# Altium footprint library QFP_Shrink_Rect_50P_Side_L.PcbLib: 15 footprints
Each footprint in its own frame and in the unit in brackets; x right, y up, seen from the top. Pads: shape width x height; smd on the part's side, far side on the other; paste and mask are expansions set on the pad; w line width, h text height; cw(c..) or ccw(c..) is an arc to the next point about the centre after c.
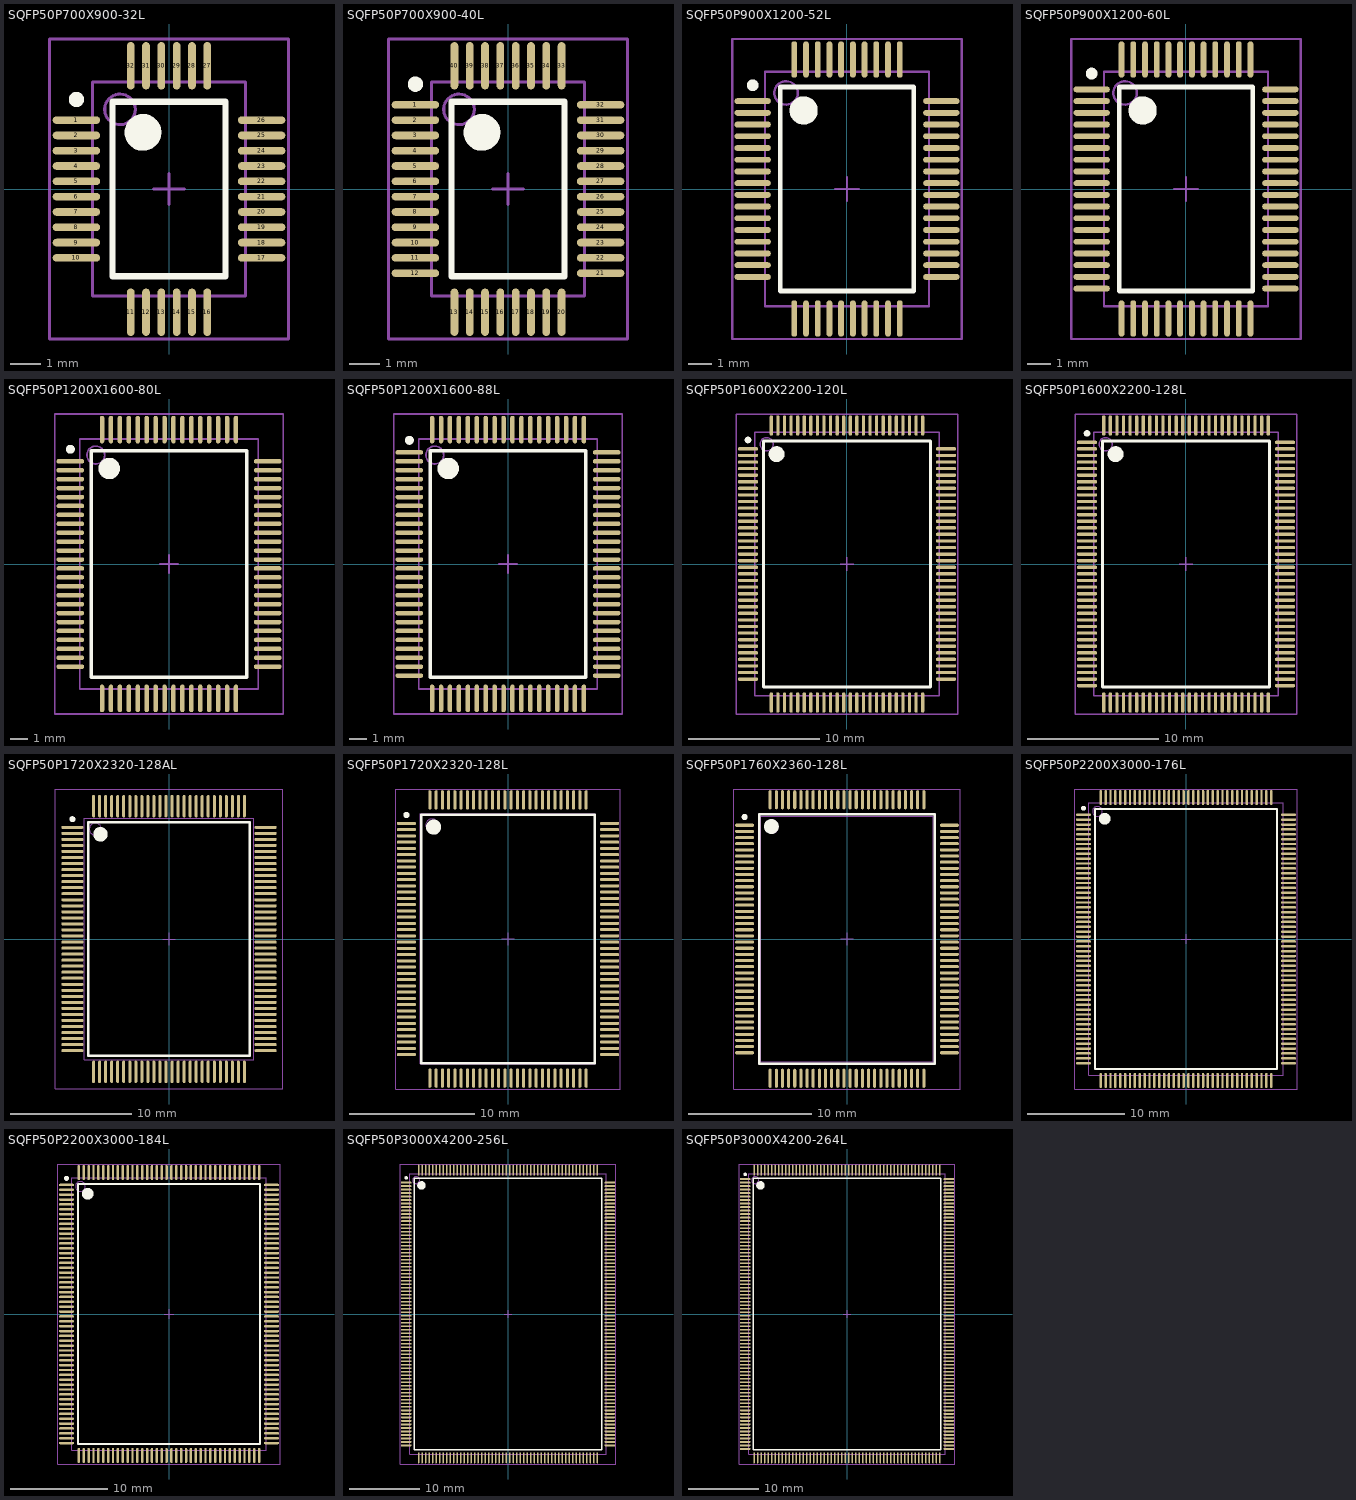
[diagram p0: the footprints below, top view; thin cyan lines are the x and y axes]

## SQFP50P700X900-32L [mm] "Shrink QFP, 32-Leads, Body 7x5 mm, Pitch 0.5mm, IPC High Density"
height 1.7
pads (32):
  oval 1.55x0.25 smd: 1(-3.025,2.25) 2(-3.025,1.75) 3(-3.025,1.25) 4(-3.025,0.75) 5(-3.025,0.25) 6(-3.025,-0.25) 7(-3.025,-0.75) 8(-3.025,-1.25) 9(-3.025,-1.75) 10(-3.025,-2.25) 17(3.025,-2.25) 18(3.025,-1.75) 19(3.025,-1.25) 20(3.025,-0.75) 21(3.025,-0.25) 22(3.025,0.25) 23(3.025,0.75) 24(3.025,1.25) 25(3.025,1.75) 26(3.025,2.25)
  oval 0.25x1.55 smd: 11(-1.25,-4.025) 12(-0.75,-4.025) 13(-0.25,-4.025) 14(0.25,-4.025) 15(0.75,-4.025) 16(1.25,-4.025) 27(1.25,4.025) 28(0.75,4.025) 29(0.25,4.025) 30(-0.25,4.025) 31(-0.75,4.025) 32(-1.25,4.025)
Top Overlay:
  circle w0.25: c-3.025,2.925 r0.125
  circle w0.6: c-0.85,1.85 r0.3
  lines w0.2: -1.85,-2.85 -1.85,2.85 1.85,2.85 1.85,-2.85 -1.85,-2.85
Mechanical 13:
  circle w0.1: c-1.6,2.6 r0.5
  lines w0.1: -2.5,-3.5 -2.5,3.5 2.5,3.5 2.5,-3.5 -2.5,-3.5
Mechanical 15:
  lines w0.1: -0.5,0 0.5,0 ; 0,-0.5 0,0.5 ; -3.9,-4.9 -3.9,4.9 3.9,4.9 3.9,-4.9 -3.9,-4.9
3D body: height 1.7, standoff 0, extent -2.5,-3.5 2.5,3.5

## SQFP50P700X900-40L [mm] "Shrink QFP, 40-Leads, Body 7x5 mm, Pitch 0.5mm, IPC High Density"
height 1.7
pads (40):
  oval 1.55x0.25 smd: 1(-3.025,2.75) 2(-3.025,2.25) 3(-3.025,1.75) 4(-3.025,1.25) 5(-3.025,0.75) 6(-3.025,0.25) 7(-3.025,-0.25) 8(-3.025,-0.75) 9(-3.025,-1.25) 10(-3.025,-1.75) 11(-3.025,-2.25) 12(-3.025,-2.75) 21(3.025,-2.75) 22(3.025,-2.25) 23(3.025,-1.75) 24(3.025,-1.25) 25(3.025,-0.75) 26(3.025,-0.25) 27(3.025,0.25) 28(3.025,0.75) 29(3.025,1.25) 30(3.025,1.75) 31(3.025,2.25) 32(3.025,2.75)
  oval 0.25x1.55 smd: 13(-1.75,-4.025) 14(-1.25,-4.025) 15(-0.75,-4.025) 16(-0.25,-4.025) 17(0.25,-4.025) 18(0.75,-4.025) 19(1.25,-4.025) 20(1.75,-4.025) 33(1.75,4.025) 34(1.25,4.025) 35(0.75,4.025) 36(0.25,4.025) 37(-0.25,4.025) 38(-0.75,4.025) 39(-1.25,4.025) 40(-1.75,4.025)
Top Overlay:
  circle w0.6: c-0.85,1.85 r0.3
  circle w0.25: c-3.025,3.425 r0.125
  lines w0.2: -1.85,-2.85 1.85,-2.85 1.85,2.85 -1.85,2.85 -1.85,-2.85
Mechanical 13:
  circle w0.1: c-1.6,2.6 r0.5
  lines w0.1: -2.5,-3.5 2.5,-3.5 2.5,3.5 -2.5,3.5 -2.5,-3.5
Mechanical 15:
  lines w0.1: -0.5,0 0.5,0 ; 0,-0.5 0,0.5 ; -3.9,-4.9 3.9,-4.9 3.9,4.9 -3.9,4.9 -3.9,-4.9
3D body: height 1.7, standoff 0, extent -2.5,-3.5 2.5,3.5

## SQFP50P900X1200-52L [mm] "Shrink QFP, 52-Leads, Body 10x7 mm, Pitch 0.5mm, IPC High Density"
height 2.2
pads (52):
  oval 1.55x0.25 smd: 1(-4.025,3.75) 2(-4.025,3.25) 3(-4.025,2.75) 4(-4.025,2.25) 5(-4.025,1.75) 6(-4.025,1.25) 7(-4.025,0.75) 8(-4.025,0.25) 9(-4.025,-0.25) 10(-4.025,-0.75) 11(-4.025,-1.25) 12(-4.025,-1.75) 13(-4.025,-2.25) 14(-4.025,-2.75) 15(-4.025,-3.25) 16(-4.025,-3.75) 27(4.025,-3.75) 28(4.025,-3.25) 29(4.025,-2.75) 30(4.025,-2.25) 31(4.025,-1.75) 32(4.025,-1.25) 33(4.025,-0.75) 34(4.025,-0.25) 35(4.025,0.25) 36(4.025,0.75) 37(4.025,1.25) 38(4.025,1.75) 39(4.025,2.25) 40(4.025,2.75) 41(4.025,3.25) 42(4.025,3.75)
  oval 0.25x1.55 smd: 17(-2.25,-5.525) 18(-1.75,-5.525) 19(-1.25,-5.525) 20(-0.75,-5.525) 21(-0.25,-5.525) 22(0.25,-5.525) 23(0.75,-5.525) 24(1.25,-5.525) 25(1.75,-5.525) 26(2.25,-5.525) 43(2.25,5.525) 44(1.75,5.525) 45(1.25,5.525) 46(0.75,5.525) 47(0.25,5.525) 48(-0.25,5.525) 49(-0.75,5.525) 50(-1.25,5.525) 51(-1.75,5.525) 52(-2.25,5.525)
Top Overlay:
  circle w0.6: c-1.85,3.35 r0.3
  circle w0.25: c-4.025,4.425 r0.125
  lines w0.2: -2.85,-4.35 2.85,-4.35 2.85,4.35 -2.85,4.35 -2.85,-4.35
Mechanical 13:
  circle w0.1: c-2.6,4.1 r0.5
  lines w0.1: -3.5,-5 3.5,-5 3.5,5 -3.5,5 -3.5,-5
Mechanical 15:
  lines w0.1: -0.5,0 0.5,0 ; 0,-0.5 0,0.5 ; -4.9,-6.4 4.9,-6.4 4.9,6.4 -4.9,6.4 -4.9,-6.4
3D body: height 2.2, standoff 0, extent -3.5,-5 3.5,5

## SQFP50P900X1200-60L [mm] "Shrink QFP, 60-Leads, Body 10x7 mm, Pitch 0.5mm, IPC High Density"
height 2.2
pads (60):
  oval 1.55x0.25 smd: 1(-4.025,4.25) 2(-4.025,3.75) 3(-4.025,3.25) 4(-4.025,2.75) 5(-4.025,2.25) 6(-4.025,1.75) 7(-4.025,1.25) 8(-4.025,0.75) 9(-4.025,0.25) 10(-4.025,-0.25) 11(-4.025,-0.75) 12(-4.025,-1.25) 13(-4.025,-1.75) 14(-4.025,-2.25) 15(-4.025,-2.75) 16(-4.025,-3.25) 17(-4.025,-3.75) 18(-4.025,-4.25) 31(4.025,-4.25) 32(4.025,-3.75) 33(4.025,-3.25) 34(4.025,-2.75) 35(4.025,-2.25) 36(4.025,-1.75) 37(4.025,-1.25) 38(4.025,-0.75) 39(4.025,-0.25) 40(4.025,0.25) 41(4.025,0.75) 42(4.025,1.25) 43(4.025,1.75) 44(4.025,2.25) 45(4.025,2.75) 46(4.025,3.25) 47(4.025,3.75) 48(4.025,4.25)
  oval 0.25x1.55 smd: 19(-2.75,-5.525) 20(-2.25,-5.525) 21(-1.75,-5.525) 22(-1.25,-5.525) 23(-0.75,-5.525) 24(-0.25,-5.525) 25(0.25,-5.525) 26(0.75,-5.525) 27(1.25,-5.525) 28(1.75,-5.525) 29(2.25,-5.525) 30(2.75,-5.525) 49(2.75,5.525) 50(2.25,5.525) 51(1.75,5.525) 52(1.25,5.525) 53(0.75,5.525) 54(0.25,5.525) 55(-0.25,5.525) 56(-0.75,5.525) 57(-1.25,5.525) 58(-1.75,5.525) 59(-2.25,5.525) 60(-2.75,5.525)
Top Overlay:
  circle w0.6: c-1.85,3.35 r0.3
  circle w0.25: c-4.025,4.925 r0.125
  lines w0.2: -2.85,-4.35 2.85,-4.35 2.85,4.35 -2.85,4.35 -2.85,-4.35
Mechanical 13:
  circle w0.1: c-2.6,4.1 r0.5
  lines w0.1: -3.5,-5 3.5,-5 3.5,5 -3.5,5 -3.5,-5
Mechanical 15:
  lines w0.1: -0.5,0 0.5,0 ; 0,-0.5 0,0.5 ; -4.9,-6.4 4.9,-6.4 4.9,6.4 -4.9,6.4 -4.9,-6.4
3D body: height 2.2, standoff 0, extent -3.5,-5 3.5,5

## SQFP50P1200X1600-80L [mm] "Shrink QFP, 80-Leads, Body 14x10 mm, Pitch 0.5mm, IPC High Density"
height 2.2
pads (80):
  oval 1.55x0.25 smd: 1(-5.525,5.75) 2(-5.525,5.25) 3(-5.525,4.75) 4(-5.525,4.25) 5(-5.525,3.75) 6(-5.525,3.25) 7(-5.525,2.75) 8(-5.525,2.25) 9(-5.525,1.75) 10(-5.525,1.25) 11(-5.525,0.75) 12(-5.525,0.25) 13(-5.525,-0.25) 14(-5.525,-0.75) 15(-5.525,-1.25) 16(-5.525,-1.75) 17(-5.525,-2.25) 18(-5.525,-2.75) 19(-5.525,-3.25) 20(-5.525,-3.75) 21(-5.525,-4.25) 22(-5.525,-4.75) 23(-5.525,-5.25) 24(-5.525,-5.75) 41(5.525,-5.75) 42(5.525,-5.25) 43(5.525,-4.75) 44(5.525,-4.25) 45(5.525,-3.75) 46(5.525,-3.25) 47(5.525,-2.75) 48(5.525,-2.25) 49(5.525,-1.75) 50(5.525,-1.25) 51(5.525,-0.75) 52(5.525,-0.25) 53(5.525,0.25) 54(5.525,0.75) 55(5.525,1.25) 56(5.525,1.75) 57(5.525,2.25) 58(5.525,2.75) 59(5.525,3.25) 60(5.525,3.75) 61(5.525,4.25) 62(5.525,4.75) 63(5.525,5.25) 64(5.525,5.75)
  oval 0.25x1.55 smd: 25(-3.75,-7.525) 26(-3.25,-7.525) 27(-2.75,-7.525) 28(-2.25,-7.525) 29(-1.75,-7.525) 30(-1.25,-7.525) 31(-0.75,-7.525) 32(-0.25,-7.525) 33(0.25,-7.525) 34(0.75,-7.525) 35(1.25,-7.525) 36(1.75,-7.525) 37(2.25,-7.525) 38(2.75,-7.525) 39(3.25,-7.525) 40(3.75,-7.525) 65(3.75,7.525) 66(3.25,7.525) 67(2.75,7.525) 68(2.25,7.525) 69(1.75,7.525) 70(1.25,7.525) 71(0.75,7.525) 72(0.25,7.525) 73(-0.25,7.525) 74(-0.75,7.525) 75(-1.25,7.525) 76(-1.75,7.525) 77(-2.25,7.525) 78(-2.75,7.525) 79(-3.25,7.525) 80(-3.75,7.525)
Top Overlay:
  circle w0.6: c-3.35,5.35 r0.3
  circle w0.25: c-5.525,6.425 r0.125
  lines w0.2: -4.35,-6.35 4.35,-6.35 4.35,6.35 -4.35,6.35 -4.35,-6.35
Mechanical 13:
  circle w0.1: c-4.1,6.1 r0.5
  lines w0.1: -5,-7 5,-7 5,7 -5,7 -5,-7
Mechanical 15:
  lines w0.1: -0.5,0 0.5,0 ; 0,-0.5 0,0.5 ; -6.4,-8.4 6.4,-8.4 6.4,8.4 -6.4,8.4 -6.4,-8.4
3D body: height 2.2, standoff 0, extent -5,-7 5,7

## SQFP50P1200X1600-88L [mm] "Shrink QFP, 88-Leads, Body 14x10 mm, Pitch 0.5mm, IPC High Density"
height 2.2
pads (88):
  oval 1.55x0.25 smd: 1(-5.525,6.25) 2(-5.525,5.75) 3(-5.525,5.25) 4(-5.525,4.75) 5(-5.525,4.25) 6(-5.525,3.75) 7(-5.525,3.25) 8(-5.525,2.75) 9(-5.525,2.25) 10(-5.525,1.75) 11(-5.525,1.25) 12(-5.525,0.75) 13(-5.525,0.25) 14(-5.525,-0.25) 15(-5.525,-0.75) 16(-5.525,-1.25) 17(-5.525,-1.75) 18(-5.525,-2.25) 19(-5.525,-2.75) 20(-5.525,-3.25) 21(-5.525,-3.75) 22(-5.525,-4.25) 23(-5.525,-4.75) 24(-5.525,-5.25) 25(-5.525,-5.75) 26(-5.525,-6.25) 45(5.525,-6.25) 46(5.525,-5.75) 47(5.525,-5.25) 48(5.525,-4.75) 49(5.525,-4.25) 50(5.525,-3.75) 51(5.525,-3.25) 52(5.525,-2.75) 53(5.525,-2.25) 54(5.525,-1.75) 55(5.525,-1.25) 56(5.525,-0.75) 57(5.525,-0.25) 58(5.525,0.25) 59(5.525,0.75) 60(5.525,1.25) 61(5.525,1.75) 62(5.525,2.25) 63(5.525,2.75) 64(5.525,3.25) 65(5.525,3.75) 66(5.525,4.25) 67(5.525,4.75) 68(5.525,5.25) 69(5.525,5.75) 70(5.525,6.25)
  oval 0.25x1.55 smd: 27(-4.25,-7.525) 28(-3.75,-7.525) 29(-3.25,-7.525) 30(-2.75,-7.525) 31(-2.25,-7.525) 32(-1.75,-7.525) 33(-1.25,-7.525) 34(-0.75,-7.525) 35(-0.25,-7.525) 36(0.25,-7.525) 37(0.75,-7.525) 38(1.25,-7.525) 39(1.75,-7.525) 40(2.25,-7.525) 41(2.75,-7.525) 42(3.25,-7.525) 43(3.75,-7.525) 44(4.25,-7.525) 71(4.25,7.525) 72(3.75,7.525) 73(3.25,7.525) 74(2.75,7.525) 75(2.25,7.525) 76(1.75,7.525) 77(1.25,7.525) 78(0.75,7.525) 79(0.25,7.525) 80(-0.25,7.525) 81(-0.75,7.525) 82(-1.25,7.525) 83(-1.75,7.525) 84(-2.25,7.525) 85(-2.75,7.525) 86(-3.25,7.525) 87(-3.75,7.525) 88(-4.25,7.525)
Top Overlay:
  circle w0.6: c-3.35,5.35 r0.3
  circle w0.25: c-5.525,6.925 r0.125
  lines w0.2: -4.35,-6.35 4.35,-6.35 4.35,6.35 -4.35,6.35 -4.35,-6.35
Mechanical 13:
  circle w0.1: c-4.1,6.1 r0.5
  lines w0.1: -5,-7 5,-7 5,7 -5,7 -5,-7
Mechanical 15:
  lines w0.1: -0.5,0 0.5,0 ; 0,-0.5 0,0.5 ; -6.4,-8.4 6.4,-8.4 6.4,8.4 -6.4,8.4 -6.4,-8.4
3D body: height 2.2, standoff 0, extent -5,-7 5,7

## SQFP50P1600X2200-120L [mm] "Shrink QFP, 120-Leads, Body 20x14 mm, Pitch 0.5mm, IPC High Density"
height 2.2
pads (120):
  oval 1.55x0.25 smd: 1(-7.525,8.75) 2(-7.525,8.25) 3(-7.525,7.75) 4(-7.525,7.25) 5(-7.525,6.75) 6(-7.525,6.25) 7(-7.525,5.75) 8(-7.525,5.25) 9(-7.525,4.75) 10(-7.525,4.25) 11(-7.525,3.75) 12(-7.525,3.25) 13(-7.525,2.75) 14(-7.525,2.25) 15(-7.525,1.75) 16(-7.525,1.25) 17(-7.525,0.75) 18(-7.525,0.25) 19(-7.525,-0.25) 20(-7.525,-0.75) 21(-7.525,-1.25) 22(-7.525,-1.75) 23(-7.525,-2.25) 24(-7.525,-2.75) 25(-7.525,-3.25) 26(-7.525,-3.75) 27(-7.525,-4.25) 28(-7.525,-4.75) 29(-7.525,-5.25) 30(-7.525,-5.75) 31(-7.525,-6.25) 32(-7.525,-6.75) 33(-7.525,-7.25) 34(-7.525,-7.75) 35(-7.525,-8.25) 36(-7.525,-8.75) 61(7.525,-8.75) 62(7.525,-8.25) 63(7.525,-7.75) 64(7.525,-7.25) 65(7.525,-6.75) 66(7.525,-6.25) 67(7.525,-5.75) 68(7.525,-5.25) 69(7.525,-4.75) 70(7.525,-4.25) 71(7.525,-3.75) 72(7.525,-3.25) 73(7.525,-2.75) 74(7.525,-2.25) 75(7.525,-1.75) 76(7.525,-1.25) 77(7.525,-0.75) 78(7.525,-0.25) 79(7.525,0.25) 80(7.525,0.75) 81(7.525,1.25) 82(7.525,1.75) 83(7.525,2.25) 84(7.525,2.75) 85(7.525,3.25) 86(7.525,3.75) 87(7.525,4.25) 88(7.525,4.75) 89(7.525,5.25) 90(7.525,5.75) 91(7.525,6.25) 92(7.525,6.75) 93(7.525,7.25) 94(7.525,7.75) 95(7.525,8.25) 96(7.525,8.75)
  oval 0.25x1.55 smd: 37(-5.75,-10.525) 38(-5.25,-10.525) 39(-4.75,-10.525) 40(-4.25,-10.525) 41(-3.75,-10.525) 42(-3.25,-10.525) 43(-2.75,-10.525) 44(-2.25,-10.525) 45(-1.75,-10.525) 46(-1.25,-10.525) 47(-0.75,-10.525) 48(-0.25,-10.525) 49(0.25,-10.525) 50(0.75,-10.525) 51(1.25,-10.525) 52(1.75,-10.525) 53(2.25,-10.525) 54(2.75,-10.525) 55(3.25,-10.525) 56(3.75,-10.525) 57(4.25,-10.525) 58(4.75,-10.525) 59(5.25,-10.525) 60(5.75,-10.525) 97(5.75,10.525) 98(5.25,10.525) 99(4.75,10.525) 100(4.25,10.525) 101(3.75,10.525) 102(3.25,10.525) 103(2.75,10.525) 104(2.25,10.525) 105(1.75,10.525) 106(1.25,10.525) 107(0.75,10.525) 108(0.25,10.525) 109(-0.25,10.525) 110(-0.75,10.525) 111(-1.25,10.525) 112(-1.75,10.525) 113(-2.25,10.525) 114(-2.75,10.525) 115(-3.25,10.525) 116(-3.75,10.525) 117(-4.25,10.525) 118(-4.75,10.525) 119(-5.25,10.525) 120(-5.75,10.525)
Top Overlay:
  circle w0.6: c-5.35,8.35 r0.3
  circle w0.25: c-7.525,9.425 r0.125
  lines w0.2: -6.35,-9.35 6.35,-9.35 6.35,9.35 -6.35,9.35 -6.35,-9.35
Mechanical 13:
  circle w0.1: c-6.1,9.1 r0.5
  lines w0.1: -7,-10 7,-10 7,10 -7,10 -7,-10
Mechanical 15:
  lines w0.1: -0.5,0 0.5,0 ; 0,-0.5 0,0.5 ; -8.4,-11.4 8.4,-11.4 8.4,11.4 -8.4,11.4 -8.4,-11.4
3D body: height 2.2, standoff 0, extent -7,-10 7,10

## SQFP50P1600X2200-128L [mm] "Shrink QFP, 128-Leads, Body 20x14 mm, Pitch 0.5mm, IPC High Density"
height 2.2
pads (128):
  oval 1.55x0.25 smd: 1(-7.525,9.25) 2(-7.525,8.75) 3(-7.525,8.25) 4(-7.525,7.75) 5(-7.525,7.25) 6(-7.525,6.75) 7(-7.525,6.25) 8(-7.525,5.75) 9(-7.525,5.25) 10(-7.525,4.75) 11(-7.525,4.25) 12(-7.525,3.75) 13(-7.525,3.25) 14(-7.525,2.75) 15(-7.525,2.25) 16(-7.525,1.75) 17(-7.525,1.25) 18(-7.525,0.75) 19(-7.525,0.25) 20(-7.525,-0.25) 21(-7.525,-0.75) 22(-7.525,-1.25) 23(-7.525,-1.75) 24(-7.525,-2.25) 25(-7.525,-2.75) 26(-7.525,-3.25) 27(-7.525,-3.75) 28(-7.525,-4.25) 29(-7.525,-4.75) 30(-7.525,-5.25) 31(-7.525,-5.75) 32(-7.525,-6.25) 33(-7.525,-6.75) 34(-7.525,-7.25) 35(-7.525,-7.75) 36(-7.525,-8.25) 37(-7.525,-8.75) 38(-7.525,-9.25) 65(7.525,-9.25) 66(7.525,-8.75) 67(7.525,-8.25) 68(7.525,-7.75) 69(7.525,-7.25) 70(7.525,-6.75) 71(7.525,-6.25) 72(7.525,-5.75) 73(7.525,-5.25) 74(7.525,-4.75) 75(7.525,-4.25) 76(7.525,-3.75) 77(7.525,-3.25) 78(7.525,-2.75) 79(7.525,-2.25) 80(7.525,-1.75) 81(7.525,-1.25) 82(7.525,-0.75) 83(7.525,-0.25) 84(7.525,0.25) 85(7.525,0.75) 86(7.525,1.25) 87(7.525,1.75) 88(7.525,2.25) 89(7.525,2.75) 90(7.525,3.25) 91(7.525,3.75) 92(7.525,4.25) 93(7.525,4.75) 94(7.525,5.25) 95(7.525,5.75) 96(7.525,6.25) 97(7.525,6.75) 98(7.525,7.25) 99(7.525,7.75) 100(7.525,8.25) 101(7.525,8.75) 102(7.525,9.25)
  oval 0.25x1.55 smd: 39(-6.25,-10.525) 40(-5.75,-10.525) 41(-5.25,-10.525) 42(-4.75,-10.525) 43(-4.25,-10.525) 44(-3.75,-10.525) 45(-3.25,-10.525) 46(-2.75,-10.525) 47(-2.25,-10.525) 48(-1.75,-10.525) 49(-1.25,-10.525) 50(-0.75,-10.525) 51(-0.25,-10.525) 52(0.25,-10.525) 53(0.75,-10.525) 54(1.25,-10.525) 55(1.75,-10.525) 56(2.25,-10.525) 57(2.75,-10.525) 58(3.25,-10.525) 59(3.75,-10.525) 60(4.25,-10.525) 61(4.75,-10.525) 62(5.25,-10.525) 63(5.75,-10.525) 64(6.25,-10.525) 103(6.25,10.525) 104(5.75,10.525) 105(5.25,10.525) 106(4.75,10.525) 107(4.25,10.525) 108(3.75,10.525) 109(3.25,10.525) 110(2.75,10.525) 111(2.25,10.525) 112(1.75,10.525) 113(1.25,10.525) 114(0.75,10.525) 115(0.25,10.525) 116(-0.25,10.525) 117(-0.75,10.525) 118(-1.25,10.525) 119(-1.75,10.525) 120(-2.25,10.525) 121(-2.75,10.525) 122(-3.25,10.525) 123(-3.75,10.525) 124(-4.25,10.525) 125(-4.75,10.525) 126(-5.25,10.525) 127(-5.75,10.525) 128(-6.25,10.525)
Top Overlay:
  circle w0.6: c-5.35,8.35 r0.3
  circle w0.25: c-7.525,9.925 r0.125
  lines w0.2: -6.35,-9.35 6.35,-9.35 6.35,9.35 -6.35,9.35 -6.35,-9.35
Mechanical 13:
  circle w0.1: c-6.1,9.1 r0.5
  lines w0.1: -7,-10 7,-10 7,10 -7,10 -7,-10
Mechanical 15:
  lines w0.1: -0.5,0 0.5,0 ; 0,-0.5 0,0.5 ; -8.4,-11.4 8.4,-11.4 8.4,11.4 -8.4,11.4 -8.4,-11.4
3D body: height 2.2, standoff 0, extent -7,-10 7,10

## SQFP50P1720X2320-128AL [mm] "Shrink QFP, 128-Leads, Body 20x14 mm, Pitch 0.5mm, IPC High Density"
height 3.26
pads (128):
  oval 1.85x0.25 smd: 1(-8,9.25) 2(-8,8.75) 3(-8,8.25) 4(-8,7.75) 5(-8,7.25) 6(-8,6.75) 7(-8,6.25) 8(-8,5.75) 9(-8,5.25) 10(-8,4.75) 11(-8,4.25) 12(-8,3.75) 13(-8,3.25) 14(-8,2.75) 15(-8,2.25) 16(-8,1.75) 17(-8,1.25) 18(-8,0.75) 19(-8,0.25) 20(-8,-0.25) 21(-8,-0.75) 22(-8,-1.25) 23(-8,-1.75) 24(-8,-2.25) 25(-8,-2.75) 26(-8,-3.25) 27(-8,-3.75) 28(-8,-4.25) 29(-8,-4.75) 30(-8,-5.25) 31(-8,-5.75) 32(-8,-6.25) 33(-8,-6.75) 34(-8,-7.25) 35(-8,-7.75) 36(-8,-8.25) 37(-8,-8.75) 38(-8,-9.25) 65(8,-9.25) 66(8,-8.75) 67(8,-8.25) 68(8,-7.75) 69(8,-7.25) 70(8,-6.75) 71(8,-6.25) 72(8,-5.75) 73(8,-5.25) 74(8,-4.75) 75(8,-4.25) 76(8,-3.75) 77(8,-3.25) 78(8,-2.75) 79(8,-2.25) 80(8,-1.75) 81(8,-1.25) 82(8,-0.75) 83(8,-0.25) 84(8,0.25) 85(8,0.75) 86(8,1.25) 87(8,1.75) 88(8,2.25) 89(8,2.75) 90(8,3.25) 91(8,3.75) 92(8,4.25) 93(8,4.75) 94(8,5.25) 95(8,5.75) 96(8,6.25) 97(8,6.75) 98(8,7.25) 99(8,7.75) 100(8,8.25) 101(8,8.75) 102(8,9.25)
  oval 0.25x1.85 smd: 39(-6.25,-11) 40(-5.75,-11) 41(-5.25,-11) 42(-4.75,-11) 43(-4.25,-11) 44(-3.75,-11) 45(-3.25,-11) 46(-2.75,-11) 47(-2.25,-11) 48(-1.75,-11) 49(-1.25,-11) 50(-0.75,-11) 51(-0.25,-11) 52(0.25,-11) 53(0.75,-11) 54(1.25,-11) 55(1.75,-11) 56(2.25,-11) 57(2.75,-11) 58(3.25,-11) 59(3.75,-11) 60(4.25,-11) 61(4.75,-11) 62(5.25,-11) 63(5.75,-11) 64(6.25,-11) 103(6.25,11) 104(5.75,11) 105(5.25,11) 106(4.75,11) 107(4.25,11) 108(3.75,11) 109(3.25,11) 110(2.75,11) 111(2.25,11) 112(1.75,11) 113(1.25,11) 114(0.75,11) 115(0.25,11) 116(-0.25,11) 117(-0.75,11) 118(-1.25,11) 119(-1.75,11) 120(-2.25,11) 121(-2.75,11) 122(-3.25,11) 123(-3.75,11) 124(-4.25,11) 125(-4.75,11) 126(-5.25,11) 127(-5.75,11) 128(-6.25,11)
Top Overlay:
  circle w0.6: c-5.675,8.675 r0.3
  circle w0.25: c-8,9.925 r0.125
  lines w0.2: -6.675,-9.675 6.675,-9.675 6.675,9.675 -6.675,9.675 -6.675,-9.675
Mechanical 13:
  circle w0.1: c-6.1,9.1 r0.5
  lines w0.1: -7,-10 7,-10 7,10 -7,10 -7,-10
Mechanical 15:
  lines w0.1: -0.5,0 0.5,0 ; 0,-0.5 0,0.5 ; -9.425,-12.425 9.425,-12.425 9.425,12.425 -9.425,12.425 -9.425,-12.425
3D body: height 3.26, standoff 0, extent -7,-10 7,10

## SQFP50P1720X2320-128L [mm] "Shrink QFP, 128-Leads, Body 20x14 mm, Pitch 0.5mm, IPC High Density"
height 3
pads (128):
  oval 1.55x0.25 smd: 1(-8.125,9.25) 2(-8.125,8.75) 3(-8.125,8.25) 4(-8.125,7.75) 5(-8.125,7.25) 6(-8.125,6.75) 7(-8.125,6.25) 8(-8.125,5.75) 9(-8.125,5.25) 10(-8.125,4.75) 11(-8.125,4.25) 12(-8.125,3.75) 13(-8.125,3.25) 14(-8.125,2.75) 15(-8.125,2.25) 16(-8.125,1.75) 17(-8.125,1.25) 18(-8.125,0.75) 19(-8.125,0.25) 20(-8.125,-0.25) 21(-8.125,-0.75) 22(-8.125,-1.25) 23(-8.125,-1.75) 24(-8.125,-2.25) 25(-8.125,-2.75) 26(-8.125,-3.25) 27(-8.125,-3.75) 28(-8.125,-4.25) 29(-8.125,-4.75) 30(-8.125,-5.25) 31(-8.125,-5.75) 32(-8.125,-6.25) 33(-8.125,-6.75) 34(-8.125,-7.25) 35(-8.125,-7.75) 36(-8.125,-8.25) 37(-8.125,-8.75) 38(-8.125,-9.25) 65(8.125,-9.25) 66(8.125,-8.75) 67(8.125,-8.25) 68(8.125,-7.75) 69(8.125,-7.25) 70(8.125,-6.75) 71(8.125,-6.25) 72(8.125,-5.75) 73(8.125,-5.25) 74(8.125,-4.75) 75(8.125,-4.25) 76(8.125,-3.75) 77(8.125,-3.25) 78(8.125,-2.75) 79(8.125,-2.25) 80(8.125,-1.75) 81(8.125,-1.25) 82(8.125,-0.75) 83(8.125,-0.25) 84(8.125,0.25) 85(8.125,0.75) 86(8.125,1.25) 87(8.125,1.75) 88(8.125,2.25) 89(8.125,2.75) 90(8.125,3.25) 91(8.125,3.75) 92(8.125,4.25) 93(8.125,4.75) 94(8.125,5.25) 95(8.125,5.75) 96(8.125,6.25) 97(8.125,6.75) 98(8.125,7.25) 99(8.125,7.75) 100(8.125,8.25) 101(8.125,8.75) 102(8.125,9.25)
  oval 0.25x1.55 smd: 39(-6.25,-11.125) 40(-5.75,-11.125) 41(-5.25,-11.125) 42(-4.75,-11.125) 43(-4.25,-11.125) 44(-3.75,-11.125) 45(-3.25,-11.125) 46(-2.75,-11.125) 47(-2.25,-11.125) 48(-1.75,-11.125) 49(-1.25,-11.125) 50(-0.75,-11.125) 51(-0.25,-11.125) 52(0.25,-11.125) 53(0.75,-11.125) 54(1.25,-11.125) 55(1.75,-11.125) 56(2.25,-11.125) 57(2.75,-11.125) 58(3.25,-11.125) 59(3.75,-11.125) 60(4.25,-11.125) 61(4.75,-11.125) 62(5.25,-11.125) 63(5.75,-11.125) 64(6.25,-11.125) 103(6.25,11.125) 104(5.75,11.125) 105(5.25,11.125) 106(4.75,11.125) 107(4.25,11.125) 108(3.75,11.125) 109(3.25,11.125) 110(2.75,11.125) 111(2.25,11.125) 112(1.75,11.125) 113(1.25,11.125) 114(0.75,11.125) 115(0.25,11.125) 116(-0.25,11.125) 117(-0.75,11.125) 118(-1.25,11.125) 119(-1.75,11.125) 120(-2.25,11.125) 121(-2.75,11.125) 122(-3.25,11.125) 123(-3.75,11.125) 124(-4.25,11.125) 125(-4.75,11.125) 126(-5.25,11.125) 127(-5.75,11.125) 128(-6.25,11.125)
Top Overlay:
  circle w0.6: c-5.95,8.95 r0.3
  circle w0.25: c-8.125,9.925 r0.125
  lines w0.2: -6.95,-9.95 6.95,-9.95 6.95,9.95 -6.95,9.95 -6.95,-9.95
Mechanical 13:
  circle w0.1: c-6.1,9.1 r0.5
  lines w0.1: -7,-10 7,-10 7,10 -7,10 -7,-10
Mechanical 15:
  lines w0.1: -0.5,0 0.5,0 ; 0,-0.5 0,0.5 ; -9,-12 9,-12 9,12 -9,12 -9,-12
3D body: height 3, standoff 0, extent -7,-10 7,10

## SQFP50P1760X2360-128L [mm] "Shrink QFP, 128-Leads, Body 20x14 mm, Pitch 0.5mm, IPC High Density"
height 2.7
pads (128):
  oval 1.55x0.25 smd: 1(-8.325,9.25) 2(-8.325,8.75) 3(-8.325,8.25) 4(-8.325,7.75) 5(-8.325,7.25) 6(-8.325,6.75) 7(-8.325,6.25) 8(-8.325,5.75) 9(-8.325,5.25) 10(-8.325,4.75) 11(-8.325,4.25) 12(-8.325,3.75) 13(-8.325,3.25) 14(-8.325,2.75) 15(-8.325,2.25) 16(-8.325,1.75) 17(-8.325,1.25) 18(-8.325,0.75) 19(-8.325,0.25) 20(-8.325,-0.25) 21(-8.325,-0.75) 22(-8.325,-1.25) 23(-8.325,-1.75) 24(-8.325,-2.25) 25(-8.325,-2.75) 26(-8.325,-3.25) 27(-8.325,-3.75) 28(-8.325,-4.25) 29(-8.325,-4.75) 30(-8.325,-5.25) 31(-8.325,-5.75) 32(-8.325,-6.25) 33(-8.325,-6.75) 34(-8.325,-7.25) 35(-8.325,-7.75) 36(-8.325,-8.25) 37(-8.325,-8.75) 38(-8.325,-9.25) 65(8.325,-9.25) 66(8.325,-8.75) 67(8.325,-8.25) 68(8.325,-7.75) 69(8.325,-7.25) 70(8.325,-6.75) 71(8.325,-6.25) 72(8.325,-5.75) 73(8.325,-5.25) 74(8.325,-4.75) 75(8.325,-4.25) 76(8.325,-3.75) 77(8.325,-3.25) 78(8.325,-2.75) 79(8.325,-2.25) 80(8.325,-1.75) 81(8.325,-1.25) 82(8.325,-0.75) 83(8.325,-0.25) 84(8.325,0.25) 85(8.325,0.75) 86(8.325,1.25) 87(8.325,1.75) 88(8.325,2.25) 89(8.325,2.75) 90(8.325,3.25) 91(8.325,3.75) 92(8.325,4.25) 93(8.325,4.75) 94(8.325,5.25) 95(8.325,5.75) 96(8.325,6.25) 97(8.325,6.75) 98(8.325,7.25) 99(8.325,7.75) 100(8.325,8.25) 101(8.325,8.75) 102(8.325,9.25)
  oval 0.25x1.55 smd: 39(-6.25,-11.325) 40(-5.75,-11.325) 41(-5.25,-11.325) 42(-4.75,-11.325) 43(-4.25,-11.325) 44(-3.75,-11.325) 45(-3.25,-11.325) 46(-2.75,-11.325) 47(-2.25,-11.325) 48(-1.75,-11.325) 49(-1.25,-11.325) 50(-0.75,-11.325) 51(-0.25,-11.325) 52(0.25,-11.325) 53(0.75,-11.325) 54(1.25,-11.325) 55(1.75,-11.325) 56(2.25,-11.325) 57(2.75,-11.325) 58(3.25,-11.325) 59(3.75,-11.325) 60(4.25,-11.325) 61(4.75,-11.325) 62(5.25,-11.325) 63(5.75,-11.325) 64(6.25,-11.325) 103(6.25,11.325) 104(5.75,11.325) 105(5.25,11.325) 106(4.75,11.325) 107(4.25,11.325) 108(3.75,11.325) 109(3.25,11.325) 110(2.75,11.325) 111(2.25,11.325) 112(1.75,11.325) 113(1.25,11.325) 114(0.75,11.325) 115(0.25,11.325) 116(-0.25,11.325) 117(-0.75,11.325) 118(-1.25,11.325) 119(-1.75,11.325) 120(-2.25,11.325) 121(-2.75,11.325) 122(-3.25,11.325) 123(-3.75,11.325) 124(-4.25,11.325) 125(-4.75,11.325) 126(-5.25,11.325) 127(-5.75,11.325) 128(-6.25,11.325)
Top Overlay:
  circle w0.6: c-6.15,9.15 r0.3
  circle w0.25: c-8.325,9.925 r0.125
  lines w0.2: -7.15,-10.15 7.15,-10.15 7.15,10.15 -7.15,10.15 -7.15,-10.15
Mechanical 13:
  circle w0.1: c-6.1,9.1 r0.5
  lines w0.1: -7,-10 7,-10 7,10 -7,10 -7,-10
Mechanical 15:
  lines w0.1: -0.5,0 0.5,0 ; 0,-0.5 0,0.5 ; -9.2,-12.2 9.2,-12.2 9.2,12.2 -9.2,12.2 -9.2,-12.2
3D body: height 2.7, standoff 0, extent -7,-10 7,10

## SQFP50P2200X3000-176L [mm] "Shrink QFP, 176-Leads, Body 28x20 mm, Pitch 0.5mm, IPC High Density"
height 3.75
pads (176):
  oval 1.55x0.25 smd: 1(-10.525,12.75) 2(-10.525,12.25) 3(-10.525,11.75) 4(-10.525,11.25) 5(-10.525,10.75) 6(-10.525,10.25) 7(-10.525,9.75) 8(-10.525,9.25) 9(-10.525,8.75) 10(-10.525,8.25) 11(-10.525,7.75) 12(-10.525,7.25) 13(-10.525,6.75) 14(-10.525,6.25) 15(-10.525,5.75) 16(-10.525,5.25) 17(-10.525,4.75) 18(-10.525,4.25) 19(-10.525,3.75) 20(-10.525,3.25) 21(-10.525,2.75) 22(-10.525,2.25) 23(-10.525,1.75) 24(-10.525,1.25) 25(-10.525,0.75) 26(-10.525,0.25) 27(-10.525,-0.25) 28(-10.525,-0.75) 29(-10.525,-1.25) 30(-10.525,-1.75) 31(-10.525,-2.25) 32(-10.525,-2.75) 33(-10.525,-3.25) 34(-10.525,-3.75) 35(-10.525,-4.25) 36(-10.525,-4.75) 37(-10.525,-5.25) 38(-10.525,-5.75) 39(-10.525,-6.25) 40(-10.525,-6.75) 41(-10.525,-7.25) 42(-10.525,-7.75) 43(-10.525,-8.25) 44(-10.525,-8.75) 45(-10.525,-9.25) 46(-10.525,-9.75) 47(-10.525,-10.25) 48(-10.525,-10.75) 49(-10.525,-11.25) 50(-10.525,-11.75) 51(-10.525,-12.25) 52(-10.525,-12.75) 89(10.525,-12.75) 90(10.525,-12.25) 91(10.525,-11.75) 92(10.525,-11.25) 93(10.525,-10.75) 94(10.525,-10.25) 95(10.525,-9.75) 96(10.525,-9.25) 97(10.525,-8.75) 98(10.525,-8.25) 99(10.525,-7.75) 100(10.525,-7.25) 101(10.525,-6.75) 102(10.525,-6.25) 103(10.525,-5.75) 104(10.525,-5.25) 105(10.525,-4.75) 106(10.525,-4.25) 107(10.525,-3.75) 108(10.525,-3.25) 109(10.525,-2.75) 110(10.525,-2.25) 111(10.525,-1.75) 112(10.525,-1.25) 113(10.525,-0.75) 114(10.525,-0.25) 115(10.525,0.25) 116(10.525,0.75) 117(10.525,1.25) 118(10.525,1.75) 119(10.525,2.25) 120(10.525,2.75) 121(10.525,3.25) 122(10.525,3.75) 123(10.525,4.25) 124(10.525,4.75) 125(10.525,5.25) 126(10.525,5.75) 127(10.525,6.25) 128(10.525,6.75) 129(10.525,7.25) 130(10.525,7.75) 131(10.525,8.25) 132(10.525,8.75) 133(10.525,9.25) 134(10.525,9.75) 135(10.525,10.25) 136(10.525,10.75) 137(10.525,11.25) 138(10.525,11.75) 139(10.525,12.25) 140(10.525,12.75)
  oval 0.25x1.55 smd: 53(-8.75,-14.525) 54(-8.25,-14.525) 55(-7.75,-14.525) 56(-7.25,-14.525) 57(-6.75,-14.525) 58(-6.25,-14.525) 59(-5.75,-14.525) 60(-5.25,-14.525) 61(-4.75,-14.525) 62(-4.25,-14.525) 63(-3.75,-14.525) 64(-3.25,-14.525) 65(-2.75,-14.525) 66(-2.25,-14.525) 67(-1.75,-14.525) 68(-1.25,-14.525) 69(-0.75,-14.525) 70(-0.25,-14.525) 71(0.25,-14.525) 72(0.75,-14.525) 73(1.25,-14.525) 74(1.75,-14.525) 75(2.25,-14.525) 76(2.75,-14.525) 77(3.25,-14.525) 78(3.75,-14.525) 79(4.25,-14.525) 80(4.75,-14.525) 81(5.25,-14.525) 82(5.75,-14.525) 83(6.25,-14.525) 84(6.75,-14.525) 85(7.25,-14.525) 86(7.75,-14.525) 87(8.25,-14.525) 88(8.75,-14.525) 141(8.75,14.525) 142(8.25,14.525) 143(7.75,14.525) 144(7.25,14.525) 145(6.75,14.525) 146(6.25,14.525) 147(5.75,14.525) 148(5.25,14.525) 149(4.75,14.525) 150(4.25,14.525) 151(3.75,14.525) 152(3.25,14.525) 153(2.75,14.525) 154(2.25,14.525) 155(1.75,14.525) 156(1.25,14.525) 157(0.75,14.525) 158(0.25,14.525) 159(-0.25,14.525) 160(-0.75,14.525) 161(-1.25,14.525) 162(-1.75,14.525) 163(-2.25,14.525) 164(-2.75,14.525) 165(-3.25,14.525) 166(-3.75,14.525) 167(-4.25,14.525) 168(-4.75,14.525) 169(-5.25,14.525) 170(-5.75,14.525) 171(-6.25,14.525) 172(-6.75,14.525) 173(-7.25,14.525) 174(-7.75,14.525) 175(-8.25,14.525) 176(-8.75,14.525)
Top Overlay:
  circle w0.6: c-8.35,12.35 r0.3
  circle w0.25: c-10.525,13.425 r0.125
  lines w0.2: -9.35,-13.35 9.35,-13.35 9.35,13.35 -9.35,13.35 -9.35,-13.35
Mechanical 13:
  circle w0.1: c-9.1,13.1 r0.5
  lines w0.1: -10,-14 10,-14 10,14 -10,14 -10,-14
Mechanical 15:
  lines w0.1: -0.5,0 0.5,0 ; 0,-0.5 0,0.5 ; -11.4,-15.4 11.4,-15.4 11.4,15.4 -11.4,15.4 -11.4,-15.4
3D body: height 3.75, standoff 0, extent -10,-14 10,14

## SQFP50P2200X3000-184L [mm] "Shrink QFP, 184-Leads, Body 28x20 mm, Pitch 0.5mm, IPC High Density"
height 3.75
pads (184):
  oval 1.55x0.25 smd: 1(-10.525,13.25) 2(-10.525,12.75) 3(-10.525,12.25) 4(-10.525,11.75) 5(-10.525,11.25) 6(-10.525,10.75) 7(-10.525,10.25) 8(-10.525,9.75) 9(-10.525,9.25) 10(-10.525,8.75) 11(-10.525,8.25) 12(-10.525,7.75) 13(-10.525,7.25) 14(-10.525,6.75) 15(-10.525,6.25) 16(-10.525,5.75) 17(-10.525,5.25) 18(-10.525,4.75) 19(-10.525,4.25) 20(-10.525,3.75) 21(-10.525,3.25) 22(-10.525,2.75) 23(-10.525,2.25) 24(-10.525,1.75) 25(-10.525,1.25) 26(-10.525,0.75) 27(-10.525,0.25) 28(-10.525,-0.25) 29(-10.525,-0.75) 30(-10.525,-1.25) 31(-10.525,-1.75) 32(-10.525,-2.25) 33(-10.525,-2.75) 34(-10.525,-3.25) 35(-10.525,-3.75) 36(-10.525,-4.25) 37(-10.525,-4.75) 38(-10.525,-5.25) 39(-10.525,-5.75) 40(-10.525,-6.25) 41(-10.525,-6.75) 42(-10.525,-7.25) 43(-10.525,-7.75) 44(-10.525,-8.25) 45(-10.525,-8.75) 46(-10.525,-9.25) 47(-10.525,-9.75) 48(-10.525,-10.25) 49(-10.525,-10.75) 50(-10.525,-11.25) 51(-10.525,-11.75) 52(-10.525,-12.25) 53(-10.525,-12.75) 54(-10.525,-13.25) 93(10.525,-13.25) 94(10.525,-12.75) 95(10.525,-12.25) 96(10.525,-11.75) 97(10.525,-11.25) 98(10.525,-10.75) 99(10.525,-10.25) 100(10.525,-9.75) 101(10.525,-9.25) 102(10.525,-8.75) 103(10.525,-8.25) 104(10.525,-7.75) 105(10.525,-7.25) 106(10.525,-6.75) 107(10.525,-6.25) 108(10.525,-5.75) 109(10.525,-5.25) 110(10.525,-4.75) 111(10.525,-4.25) 112(10.525,-3.75) 113(10.525,-3.25) 114(10.525,-2.75) 115(10.525,-2.25) 116(10.525,-1.75) 117(10.525,-1.25) 118(10.525,-0.75) 119(10.525,-0.25) 120(10.525,0.25) 121(10.525,0.75) 122(10.525,1.25) 123(10.525,1.75) 124(10.525,2.25) 125(10.525,2.75) 126(10.525,3.25) 127(10.525,3.75) 128(10.525,4.25) 129(10.525,4.75) 130(10.525,5.25) 131(10.525,5.75) 132(10.525,6.25) 133(10.525,6.75) 134(10.525,7.25) 135(10.525,7.75) 136(10.525,8.25) 137(10.525,8.75) 138(10.525,9.25) 139(10.525,9.75) 140(10.525,10.25) 141(10.525,10.75) 142(10.525,11.25) 143(10.525,11.75) 144(10.525,12.25) 145(10.525,12.75) 146(10.525,13.25)
  oval 0.25x1.55 smd: 55(-9.25,-14.525) 56(-8.75,-14.525) 57(-8.25,-14.525) 58(-7.75,-14.525) 59(-7.25,-14.525) 60(-6.75,-14.525) 61(-6.25,-14.525) 62(-5.75,-14.525) 63(-5.25,-14.525) 64(-4.75,-14.525) 65(-4.25,-14.525) 66(-3.75,-14.525) 67(-3.25,-14.525) 68(-2.75,-14.525) 69(-2.25,-14.525) 70(-1.75,-14.525) 71(-1.25,-14.525) 72(-0.75,-14.525) 73(-0.25,-14.525) 74(0.25,-14.525) 75(0.75,-14.525) 76(1.25,-14.525) 77(1.75,-14.525) 78(2.25,-14.525) 79(2.75,-14.525) 80(3.25,-14.525) 81(3.75,-14.525) 82(4.25,-14.525) 83(4.75,-14.525) 84(5.25,-14.525) 85(5.75,-14.525) 86(6.25,-14.525) 87(6.75,-14.525) 88(7.25,-14.525) 89(7.75,-14.525) 90(8.25,-14.525) 91(8.75,-14.525) 92(9.25,-14.525) 147(9.25,14.525) 148(8.75,14.525) 149(8.25,14.525) 150(7.75,14.525) 151(7.25,14.525) 152(6.75,14.525) 153(6.25,14.525) 154(5.75,14.525) 155(5.25,14.525) 156(4.75,14.525) 157(4.25,14.525) 158(3.75,14.525) 159(3.25,14.525) 160(2.75,14.525) 161(2.25,14.525) 162(1.75,14.525) 163(1.25,14.525) 164(0.75,14.525) 165(0.25,14.525) 166(-0.25,14.525) 167(-0.75,14.525) 168(-1.25,14.525) 169(-1.75,14.525) 170(-2.25,14.525) 171(-2.75,14.525) 172(-3.25,14.525) 173(-3.75,14.525) 174(-4.25,14.525) 175(-4.75,14.525) 176(-5.25,14.525) 177(-5.75,14.525) 178(-6.25,14.525) 179(-6.75,14.525) 180(-7.25,14.525) 181(-7.75,14.525) 182(-8.25,14.525) 183(-8.75,14.525) 184(-9.25,14.525)
Top Overlay:
  circle w0.6: c-8.35,12.35 r0.3
  circle w0.25: c-10.525,13.925 r0.125
  lines w0.2: -9.35,-13.35 9.35,-13.35 9.35,13.35 -9.35,13.35 -9.35,-13.35
Mechanical 13:
  circle w0.1: c-9.1,13.1 r0.5
  lines w0.1: -10,-14 10,-14 10,14 -10,14 -10,-14
Mechanical 15:
  lines w0.1: -0.5,0 0.5,0 ; 0,-0.5 0,0.5 ; -11.4,-15.4 11.4,-15.4 11.4,15.4 -11.4,15.4 -11.4,-15.4
3D body: height 3.75, standoff 0, extent -10,-14 10,14

## SQFP50P3000X4200-256L [mm] "Shrink QFP, 256-Leads, Body 40x28 mm, Pitch 0.5mm, IPC High Density"
height 4.2
pads (256):
  oval 1.55x0.25 smd: 1(-14.525,18.75) 2(-14.525,18.25) 3(-14.525,17.75) 4(-14.525,17.25) 5(-14.525,16.75) 6(-14.525,16.25) 7(-14.525,15.75) 8(-14.525,15.25) 9(-14.525,14.75) 10(-14.525,14.25) 11(-14.525,13.75) 12(-14.525,13.25) 13(-14.525,12.75) 14(-14.525,12.25) 15(-14.525,11.75) 16(-14.525,11.25) 17(-14.525,10.75) 18(-14.525,10.25) 19(-14.525,9.75) 20(-14.525,9.25) 21(-14.525,8.75) 22(-14.525,8.25) 23(-14.525,7.75) 24(-14.525,7.25) 25(-14.525,6.75) 26(-14.525,6.25) 27(-14.525,5.75) 28(-14.525,5.25) 29(-14.525,4.75) 30(-14.525,4.25) 31(-14.525,3.75) 32(-14.525,3.25) 33(-14.525,2.75) 34(-14.525,2.25) 35(-14.525,1.75) 36(-14.525,1.25) 37(-14.525,0.75) 38(-14.525,0.25) 39(-14.525,-0.25) 40(-14.525,-0.75) 41(-14.525,-1.25) 42(-14.525,-1.75) 43(-14.525,-2.25) 44(-14.525,-2.75) 45(-14.525,-3.25) 46(-14.525,-3.75) 47(-14.525,-4.25) 48(-14.525,-4.75) 49(-14.525,-5.25) 50(-14.525,-5.75) 51(-14.525,-6.25) 52(-14.525,-6.75) 53(-14.525,-7.25) 54(-14.525,-7.75) 55(-14.525,-8.25) 56(-14.525,-8.75) 57(-14.525,-9.25) 58(-14.525,-9.75) 59(-14.525,-10.25) 60(-14.525,-10.75) 61(-14.525,-11.25) 62(-14.525,-11.75) 63(-14.525,-12.25) 64(-14.525,-12.75) 65(-14.525,-13.25) 66(-14.525,-13.75) 67(-14.525,-14.25) 68(-14.525,-14.75) 69(-14.525,-15.25) 70(-14.525,-15.75) 71(-14.525,-16.25) 72(-14.525,-16.75) 73(-14.525,-17.25) 74(-14.525,-17.75) 75(-14.525,-18.25) 76(-14.525,-18.75) 129(14.525,-18.75) 130(14.525,-18.25) 131(14.525,-17.75) 132(14.525,-17.25) 133(14.525,-16.75) 134(14.525,-16.25) 135(14.525,-15.75) 136(14.525,-15.25) 137(14.525,-14.75) 138(14.525,-14.25) 139(14.525,-13.75) 140(14.525,-13.25) 141(14.525,-12.75) 142(14.525,-12.25) 143(14.525,-11.75) 144(14.525,-11.25) 145(14.525,-10.75) 146(14.525,-10.25) 147(14.525,-9.75) 148(14.525,-9.25) 149(14.525,-8.75) 150(14.525,-8.25) 151(14.525,-7.75) 152(14.525,-7.25) 153(14.525,-6.75) 154(14.525,-6.25) 155(14.525,-5.75) 156(14.525,-5.25) 157(14.525,-4.75) 158(14.525,-4.25) 159(14.525,-3.75) 160(14.525,-3.25) 161(14.525,-2.75) 162(14.525,-2.25) 163(14.525,-1.75) 164(14.525,-1.25) 165(14.525,-0.75) 166(14.525,-0.25) 167(14.525,0.25) 168(14.525,0.75) 169(14.525,1.25) 170(14.525,1.75) 171(14.525,2.25) 172(14.525,2.75) 173(14.525,3.25) 174(14.525,3.75) 175(14.525,4.25) 176(14.525,4.75) 177(14.525,5.25) 178(14.525,5.75) 179(14.525,6.25) 180(14.525,6.75) 181(14.525,7.25) 182(14.525,7.75) 183(14.525,8.25) 184(14.525,8.75) 185(14.525,9.25) 186(14.525,9.75) 187(14.525,10.25) 188(14.525,10.75) 189(14.525,11.25) 190(14.525,11.75) 191(14.525,12.25) 192(14.525,12.75) 193(14.525,13.25) 194(14.525,13.75) 195(14.525,14.25) 196(14.525,14.75) 197(14.525,15.25) 198(14.525,15.75) 199(14.525,16.25) 200(14.525,16.75) 201(14.525,17.25) 202(14.525,17.75) 203(14.525,18.25) 204(14.525,18.75)
  oval 0.25x1.55 smd: 77(-12.75,-20.525) 78(-12.25,-20.525) 79(-11.75,-20.525) 80(-11.25,-20.525) 81(-10.75,-20.525) 82(-10.25,-20.525) 83(-9.75,-20.525) 84(-9.25,-20.525) 85(-8.75,-20.525) 86(-8.25,-20.525) 87(-7.75,-20.525) 88(-7.25,-20.525) 89(-6.75,-20.525) 90(-6.25,-20.525) 91(-5.75,-20.525) 92(-5.25,-20.525) 93(-4.75,-20.525) 94(-4.25,-20.525) 95(-3.75,-20.525) 96(-3.25,-20.525) 97(-2.75,-20.525) 98(-2.25,-20.525) 99(-1.75,-20.525) 100(-1.25,-20.525) 101(-0.75,-20.525) 102(-0.25,-20.525) 103(0.25,-20.525) 104(0.75,-20.525) 105(1.25,-20.525) 106(1.75,-20.525) 107(2.25,-20.525) 108(2.75,-20.525) 109(3.25,-20.525) 110(3.75,-20.525) 111(4.25,-20.525) 112(4.75,-20.525) 113(5.25,-20.525) 114(5.75,-20.525) 115(6.25,-20.525) 116(6.75,-20.525) 117(7.25,-20.525) 118(7.75,-20.525) 119(8.25,-20.525) 120(8.75,-20.525) 121(9.25,-20.525) 122(9.75,-20.525) 123(10.25,-20.525) 124(10.75,-20.525) 125(11.25,-20.525) 126(11.75,-20.525) 127(12.25,-20.525) 128(12.75,-20.525) 205(12.75,20.525) 206(12.25,20.525) 207(11.75,20.525) 208(11.25,20.525) 209(10.75,20.525) 210(10.25,20.525) 211(9.75,20.525) 212(9.25,20.525) 213(8.75,20.525) 214(8.25,20.525) 215(7.75,20.525) 216(7.25,20.525) 217(6.75,20.525) 218(6.25,20.525) 219(5.75,20.525) 220(5.25,20.525) 221(4.75,20.525) 222(4.25,20.525) 223(3.75,20.525) 224(3.25,20.525) 225(2.75,20.525) 226(2.25,20.525) 227(1.75,20.525) 228(1.25,20.525) 229(0.75,20.525) 230(0.25,20.525) 231(-0.25,20.525) 232(-0.75,20.525) 233(-1.25,20.525) 234(-1.75,20.525) 235(-2.25,20.525) 236(-2.75,20.525) 237(-3.25,20.525) 238(-3.75,20.525) 239(-4.25,20.525) 240(-4.75,20.525) 241(-5.25,20.525) 242(-5.75,20.525) 243(-6.25,20.525) 244(-6.75,20.525) 245(-7.25,20.525) 246(-7.75,20.525) 247(-8.25,20.525) 248(-8.75,20.525) 249(-9.25,20.525) 250(-9.75,20.525) 251(-10.25,20.525) 252(-10.75,20.525) 253(-11.25,20.525) 254(-11.75,20.525) 255(-12.25,20.525) 256(-12.75,20.525)
Top Overlay:
  circle w0.6: c-12.35,18.35 r0.3
  circle w0.25: c-14.525,19.425 r0.125
  lines w0.2: -13.35,-19.35 13.35,-19.35 13.35,19.35 -13.35,19.35 -13.35,-19.35
Mechanical 13:
  circle w0.1: c-13.1,19.1 r0.5
  lines w0.1: -14,-20 14,-20 14,20 -14,20 -14,-20
Mechanical 15:
  lines w0.1: -0.5,0 0.5,0 ; 0,-0.5 0,0.5 ; -15.4,-21.4 15.4,-21.4 15.4,21.4 -15.4,21.4 -15.4,-21.4
3D body: height 4.2, standoff 0, extent -14,-20 14,20

## SQFP50P3000X4200-264L [mm] "Shrink QFP, 264-Leads, Body 40x28 mm, Pitch 0.5mm, IPC High Density"
height 4.2
pads (264):
  oval 1.55x0.25 smd: 1(-14.525,19.25) 2(-14.525,18.75) 3(-14.525,18.25) 4(-14.525,17.75) 5(-14.525,17.25) 6(-14.525,16.75) 7(-14.525,16.25) 8(-14.525,15.75) 9(-14.525,15.25) 10(-14.525,14.75) 11(-14.525,14.25) 12(-14.525,13.75) 13(-14.525,13.25) 14(-14.525,12.75) 15(-14.525,12.25) 16(-14.525,11.75) 17(-14.525,11.25) 18(-14.525,10.75) 19(-14.525,10.25) 20(-14.525,9.75) 21(-14.525,9.25) 22(-14.525,8.75) 23(-14.525,8.25) 24(-14.525,7.75) 25(-14.525,7.25) 26(-14.525,6.75) 27(-14.525,6.25) 28(-14.525,5.75) 29(-14.525,5.25) 30(-14.525,4.75) 31(-14.525,4.25) 32(-14.525,3.75) 33(-14.525,3.25) 34(-14.525,2.75) 35(-14.525,2.25) 36(-14.525,1.75) 37(-14.525,1.25) 38(-14.525,0.75) 39(-14.525,0.25) 40(-14.525,-0.25) 41(-14.525,-0.75) 42(-14.525,-1.25) 43(-14.525,-1.75) 44(-14.525,-2.25) 45(-14.525,-2.75) 46(-14.525,-3.25) 47(-14.525,-3.75) 48(-14.525,-4.25) 49(-14.525,-4.75) 50(-14.525,-5.25) 51(-14.525,-5.75) 52(-14.525,-6.25) 53(-14.525,-6.75) 54(-14.525,-7.25) 55(-14.525,-7.75) 56(-14.525,-8.25) 57(-14.525,-8.75) 58(-14.525,-9.25) 59(-14.525,-9.75) 60(-14.525,-10.25) 61(-14.525,-10.75) 62(-14.525,-11.25) 63(-14.525,-11.75) 64(-14.525,-12.25) 65(-14.525,-12.75) 66(-14.525,-13.25) 67(-14.525,-13.75) 68(-14.525,-14.25) 69(-14.525,-14.75) 70(-14.525,-15.25) 71(-14.525,-15.75) 72(-14.525,-16.25) 73(-14.525,-16.75) 74(-14.525,-17.25) 75(-14.525,-17.75) 76(-14.525,-18.25) 77(-14.525,-18.75) 78(-14.525,-19.25) 133(14.525,-19.25) 134(14.525,-18.75) 135(14.525,-18.25) 136(14.525,-17.75) 137(14.525,-17.25) 138(14.525,-16.75) 139(14.525,-16.25) 140(14.525,-15.75) 141(14.525,-15.25) 142(14.525,-14.75) 143(14.525,-14.25) 144(14.525,-13.75) 145(14.525,-13.25) 146(14.525,-12.75) 147(14.525,-12.25) 148(14.525,-11.75) 149(14.525,-11.25) 150(14.525,-10.75) 151(14.525,-10.25) 152(14.525,-9.75) 153(14.525,-9.25) 154(14.525,-8.75) 155(14.525,-8.25) 156(14.525,-7.75) 157(14.525,-7.25) 158(14.525,-6.75) 159(14.525,-6.25) 160(14.525,-5.75) 161(14.525,-5.25) 162(14.525,-4.75) 163(14.525,-4.25) 164(14.525,-3.75) 165(14.525,-3.25) 166(14.525,-2.75) 167(14.525,-2.25) 168(14.525,-1.75) 169(14.525,-1.25) 170(14.525,-0.75) 171(14.525,-0.25) 172(14.525,0.25) 173(14.525,0.75) 174(14.525,1.25) 175(14.525,1.75) 176(14.525,2.25) 177(14.525,2.75) 178(14.525,3.25) 179(14.525,3.75) 180(14.525,4.25) 181(14.525,4.75) 182(14.525,5.25) 183(14.525,5.75) 184(14.525,6.25) 185(14.525,6.75) 186(14.525,7.25) 187(14.525,7.75) 188(14.525,8.25) 189(14.525,8.75) 190(14.525,9.25) 191(14.525,9.75) 192(14.525,10.25) 193(14.525,10.75) 194(14.525,11.25) 195(14.525,11.75) 196(14.525,12.25) 197(14.525,12.75) 198(14.525,13.25) 199(14.525,13.75) 200(14.525,14.25) 201(14.525,14.75) 202(14.525,15.25) 203(14.525,15.75) 204(14.525,16.25) 205(14.525,16.75) 206(14.525,17.25) 207(14.525,17.75) 208(14.525,18.25) 209(14.525,18.75) 210(14.525,19.25)
  oval 0.25x1.55 smd: 79(-13.25,-20.525) 80(-12.75,-20.525) 81(-12.25,-20.525) 82(-11.75,-20.525) 83(-11.25,-20.525) 84(-10.75,-20.525) 85(-10.25,-20.525) 86(-9.75,-20.525) 87(-9.25,-20.525) 88(-8.75,-20.525) 89(-8.25,-20.525) 90(-7.75,-20.525) 91(-7.25,-20.525) 92(-6.75,-20.525) 93(-6.25,-20.525) 94(-5.75,-20.525) 95(-5.25,-20.525) 96(-4.75,-20.525) 97(-4.25,-20.525) 98(-3.75,-20.525) 99(-3.25,-20.525) 100(-2.75,-20.525) 101(-2.25,-20.525) 102(-1.75,-20.525) 103(-1.25,-20.525) 104(-0.75,-20.525) 105(-0.25,-20.525) 106(0.25,-20.525) 107(0.75,-20.525) 108(1.25,-20.525) 109(1.75,-20.525) 110(2.25,-20.525) 111(2.75,-20.525) 112(3.25,-20.525) 113(3.75,-20.525) 114(4.25,-20.525) 115(4.75,-20.525) 116(5.25,-20.525) 117(5.75,-20.525) 118(6.25,-20.525) 119(6.75,-20.525) 120(7.25,-20.525) 121(7.75,-20.525) 122(8.25,-20.525) 123(8.75,-20.525) 124(9.25,-20.525) 125(9.75,-20.525) 126(10.25,-20.525) 127(10.75,-20.525) 128(11.25,-20.525) 129(11.75,-20.525) 130(12.25,-20.525) 131(12.75,-20.525) 132(13.25,-20.525) 211(13.25,20.525) 212(12.75,20.525) 213(12.25,20.525) 214(11.75,20.525) 215(11.25,20.525) 216(10.75,20.525) 217(10.25,20.525) 218(9.75,20.525) 219(9.25,20.525) 220(8.75,20.525) 221(8.25,20.525) 222(7.75,20.525) 223(7.25,20.525) 224(6.75,20.525) 225(6.25,20.525) 226(5.75,20.525) 227(5.25,20.525) 228(4.75,20.525) 229(4.25,20.525) 230(3.75,20.525) 231(3.25,20.525) 232(2.75,20.525) 233(2.25,20.525) 234(1.75,20.525) 235(1.25,20.525) 236(0.75,20.525) 237(0.25,20.525) 238(-0.25,20.525) 239(-0.75,20.525) 240(-1.25,20.525) 241(-1.75,20.525) 242(-2.25,20.525) 243(-2.75,20.525) 244(-3.25,20.525) 245(-3.75,20.525) 246(-4.25,20.525) 247(-4.75,20.525) 248(-5.25,20.525) 249(-5.75,20.525) 250(-6.25,20.525) 251(-6.75,20.525) 252(-7.25,20.525) 253(-7.75,20.525) 254(-8.25,20.525) 255(-8.75,20.525) 256(-9.25,20.525) 257(-9.75,20.525) 258(-10.25,20.525) 259(-10.75,20.525) 260(-11.25,20.525) 261(-11.75,20.525) 262(-12.25,20.525) 263(-12.75,20.525) 264(-13.25,20.525)
Top Overlay:
  circle w0.25: c-14.525,19.925 r0.125
  circle w0.6: c-12.35,18.35 r0.3
  lines w0.2: -13.35,-19.35 -13.35,19.35 13.35,19.35 13.35,-19.35 -13.35,-19.35
Mechanical 13:
  circle w0.1: c-13.1,19.1 r0.5
  lines w0.1: -14,-20 -14,20 14,20 14,-20 -14,-20
Mechanical 15:
  lines w0.1: -0.5,0 0.5,0 ; 0,-0.5 0,0.5 ; -15.4,-21.4 -15.4,21.4 15.4,21.4 15.4,-21.4 -15.4,-21.4
3D body: height 4.2, standoff 0, extent -14,-20 14,20